# Altium schematic symbol library CRCW0402100KFKED.SchLib: 1 symbol
Pins are listed as number, name and electrical type; pins without a type are passive.

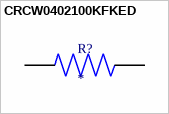
[diagram p0: symbol CRCW0402100KFKED]

## CRCW0402100KFKED
designator R?
RES, THICK FILM, 100K, 1%, 0.063W, 0402; MP: CRCW0402100KFKED; MF: {'manufacturer': u'Vishay'}; Price: None; Availability: Unavailable; Value: *; Package: None
footprint RESC1005X40N
pins: 1, 2